# EAGLE library part ESP32-C3_SUPERMINI_TH (library ESP32-S3_SUPERMINI_TH)
Biblioteca modificada para esp32 s3 super mini
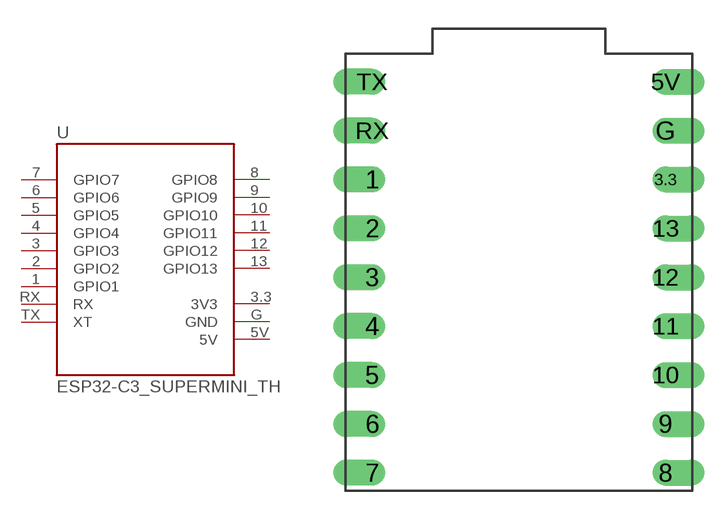
[diagram p0: symbol with the pads of MODULE_ESP32-C3_SUPERMINI_TH; footprint MODULE_ESP32-C3_SUPERMINI_TH]

Designator prefix U

## ESP32-C3_SUPERMINI_TH (AVAILABILITY: Not in stock; DESCRIPTION: Super tiny ESP32-S3; MARCA: model S3 esp32; MF: Espressif Systems; MODEL: esp32 S3; MP: ESP32-S3 SuperMini_TH; PACKAGE: Package)  [MODULE_ESP32-C3_SUPERMINI_TH]
1  GPIO1
2  GPIO2
3  GPIO3
3.3  3V3  pwr
4  GPIO4
5  GPIO5
5V  5V  pwr
6  GPIO6
7  GPIO7
8  GPIO8
9  GPIO9
10  GPIO10
11  GPIO11
12  GPIO12
13  GPIO13
G  GND  pwr
RX  RX
TX  XT

## Footprint MODULE_ESP32-C3_SUPERMINI_TH (pad centres in mm)
drill 0.84 offset: 1 -7.62,4.82; 2 -7.62,2.28; 3 -7.62,-0.26; 3.3 7.62,4.82; 4 -7.62,-2.8; 5 -7.62,-5.34; 5V 7.62,9.9; 6 -7.62,-7.88; 7 -7.62,-10.42; 8 7.62,-10.42; 9 7.62,-7.88; 10 7.62,-5.34; 11 7.62,-2.8; 12 7.62,-0.26; 13 7.62,2.28; G 7.62,7.36; RX -7.62,7.36; TX -7.62,9.9